# Altium schematic symbol library Schlib1.SchLib: 8 symbols
Pins are listed as number, name and electrical type; pins without a type are passive.

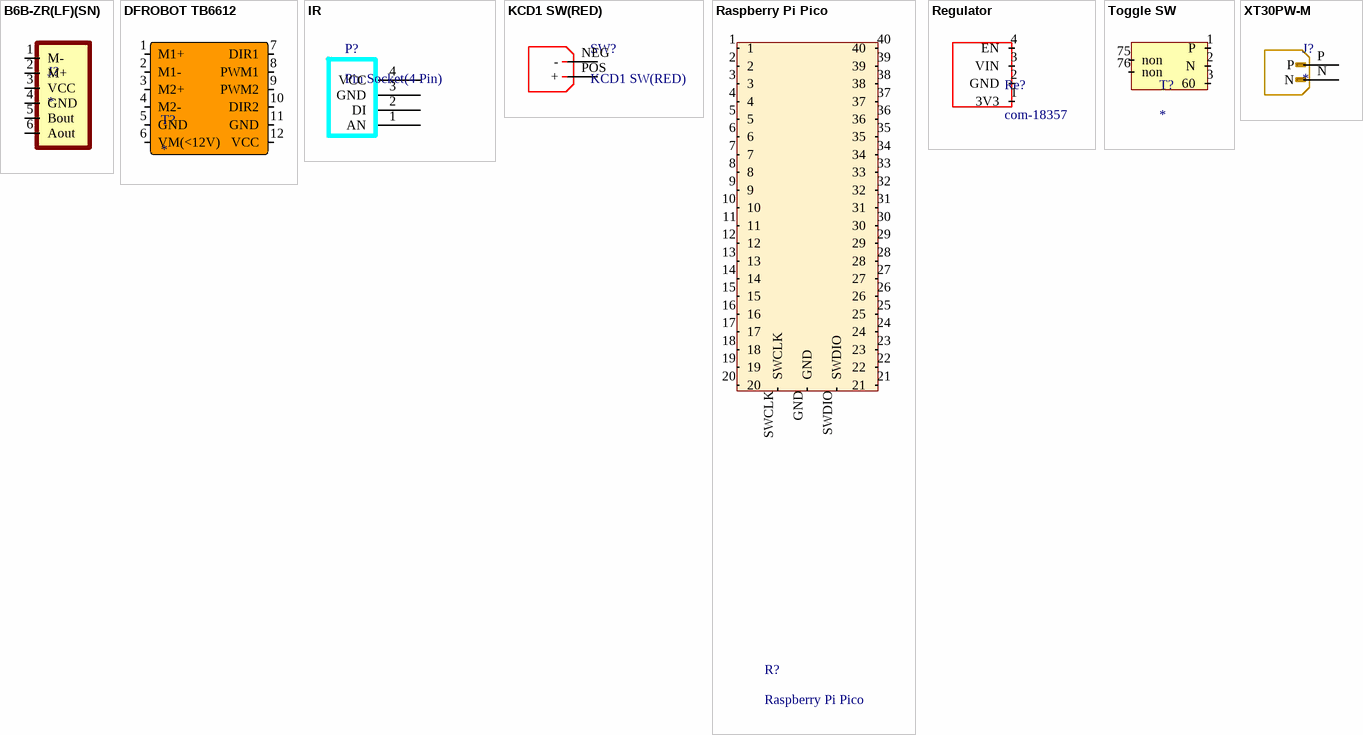
[diagram p0: symbols B6B-ZR(LF)(SN) to XT30PW-M]

## B6B-ZR(LF)(SN)
designator J?
Connector Header Through Hole 6 position 0.059 (1.50mm); MP: B6B-ZR(LF)(SN); MF: JST Sales; SnapEDA_Link: https://www.snapeda.com/parts/B6B-ZR(LF)(SN)/JST+Sales+America+Inc./view-part/?ref=snap; Digi-Key_Part_Number: 455-1661-ND; Value: *; Package: None; Purchase-URL: https://pricing.snapeda.com/search/part/B6B-ZR(LF)(SN)/?ref=eda; Check_prices: https://www.snapeda.com/parts/B6B-ZR(LF)(SN)/JST+Sales+America+Inc./view-part/?ref=eda
footprint JST_B6B-ZR(LF)(SN)
pins: 1 M-, 2 M+, 3 VCC, 4 GND, 5 Bout, 6 Aout

## DFROBOT TB6612
designator T?
footprint DFROBOT TB6612
pins: 1 M1+, 2 M1-, 3 M2+, 4 M2-, 5 GND, 6 VM(<12V), 7 DIR1, 8 PWM1, 9 PWM2, 10 DIR2, 11 GND, 12 VCC

## IR
designator P?, comment Pin Socket(4 Pin)
footprint IR
pins: 1 AN, 2 DI, 3 GND, 4 VCC

## KCD1 SW(RED)
designator SW?
footprint KCD1 SW(RED)
pins: NEG - (power), POS + (power)

## Raspberry Pi Pico
designator R?
footprint Raspberry Pi Pico
pins: 1, 2, 3, 4, 5, 6, 7, 8, 9, 10, 11, 12, 13, 14, 15, 16, 17, 18, 19, 20, 21, 22, 23, 24, 25, 26, 27, 28, 29, 30, 31, 32, 33, 34, 35, 36, 37, 38, 39, 40, GND, SWCLK, SWDIO

## Regulator
designator Re?, comment com-18357
footprint Regulator
pins: 1 3V3, 2 GND, 3 VIN, 4 EN

## Toggle SW
designator T?
footprint Torrle SW
pins: 1 P, 2 N, 3 60, 75 non, 76 non

## XT30PW-M
designator J?
Socket; DC supply; XT30; male; PIN: 2; on PCBs; THT; Colour: yellow; MF: AMASS; MP: XT30PW-M; Package: None; Price: None; Value: *; SnapEDA_Link: https://www.snapeda.com/parts/XT30PW-M/AMASS/view-part/?ref=snap; Availability: Not in stock; Check_prices: https://www.snapeda.com/parts/XT30PW-M/AMASS/view-part/?ref=eda
footprint AMASS_XT30PW-M
pins: N (power), P (power)